# EAGLE library part NLSV1T244 (library Moo1.2)
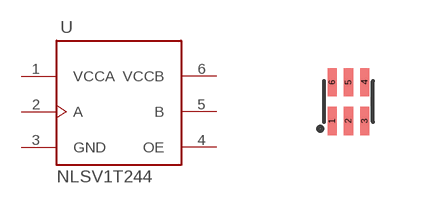
[diagram p3: symbol with the pads of UDFN6_1PRIMARY; footprint UDFN6_1PRIMARY]

Designator prefix -

## NLSV1T244  [UDFN6_1PRIMARY]
1  VCCA
2  A
3  GND
4  OE
5  B  out
6  VCCB

## Footprint UDFN6_1PRIMARY (pad centres in mm)
Original name UDFN6
smd 0.229 x 0.711: 1 -0.406,-0.483; 2 0,-0.483; 3 0.406,-0.483; 4 0.406,0.483; 5 0,0.483; 6 -0.406,0.483